# Altium integrated library FTDI.IntLib: 8 symbols
Pins are listed as number, name and electrical type; pins without a type are passive.

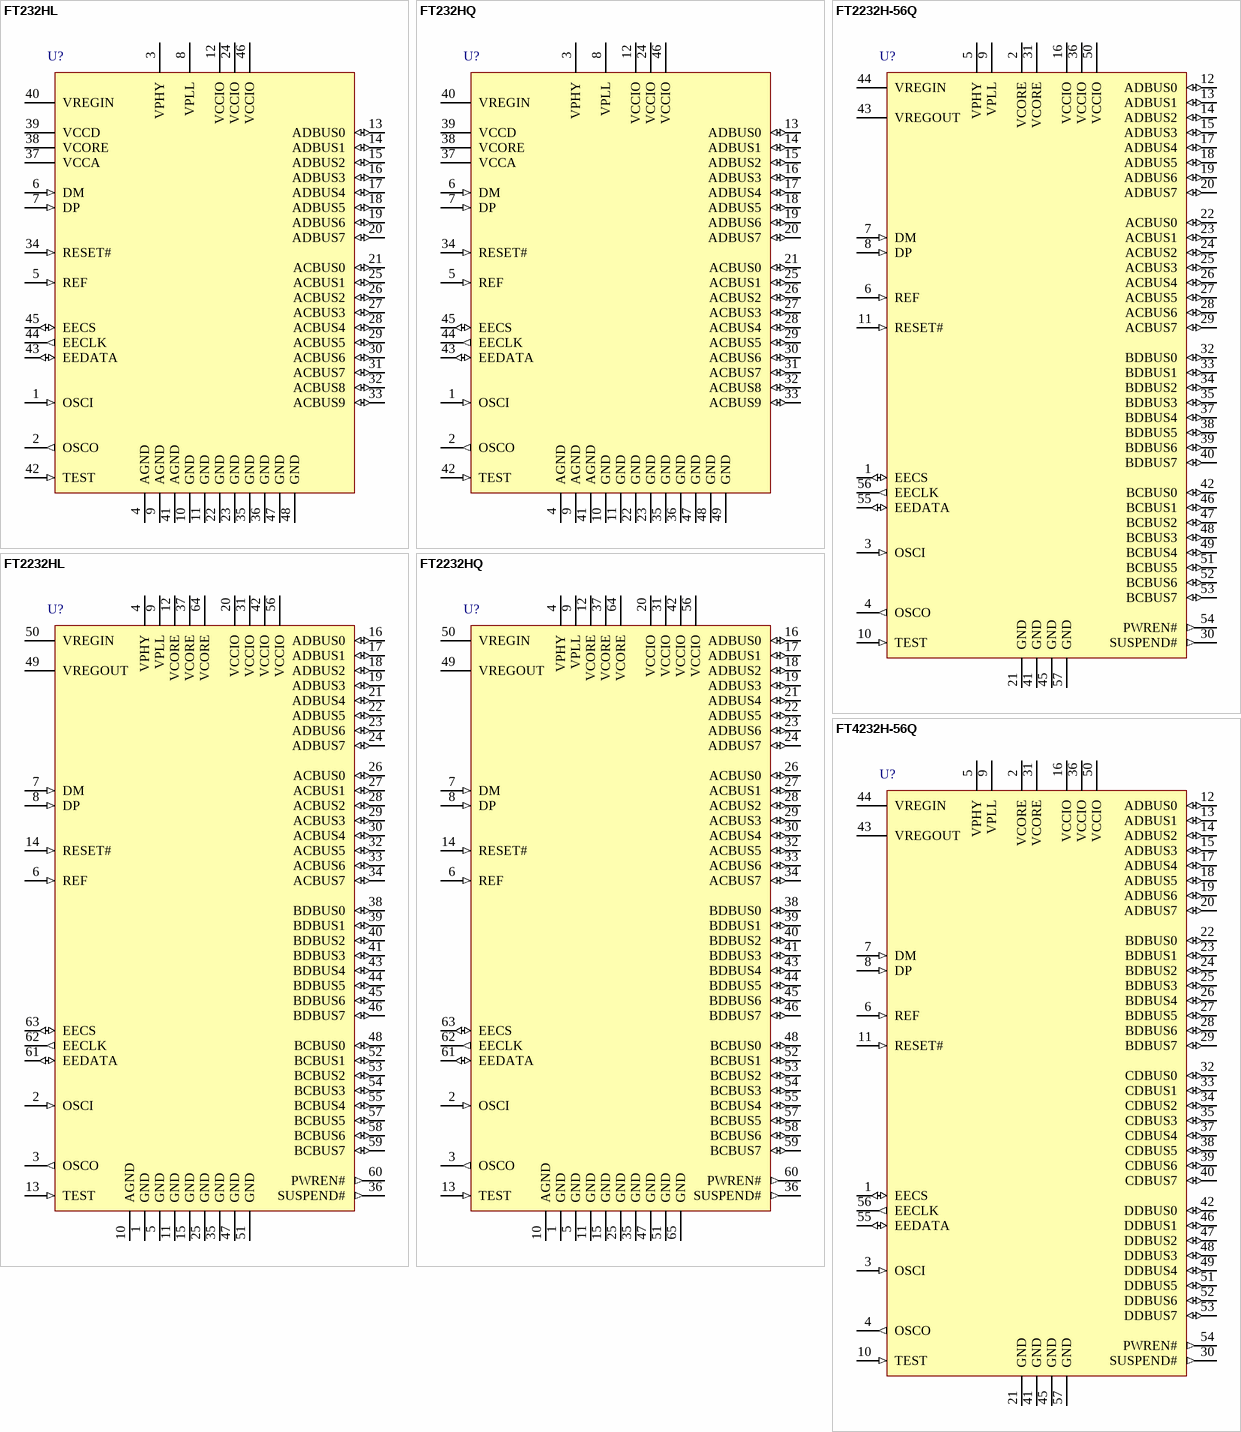
[diagram p0: symbols FT232HL to FT4232H-56Q]

## FT232HL
designator U?
Single Channel Hi-Speed USB to Multipurpose UART/FIFO IC, 48-pin LQFP, Tape and Reel; Manufacturer: FTDI; PartNumber: FT232HL; DatasheetVersion: ver 1.8, Dec-2012; PackageVersion: Dec-12; PackageReference: LQFP-48; PackageDescription: 48-Pin Thin Quad Flat Pack, 7 x 7 mm Body, 0.5 mm Pitch; ComponentLink1Description: Manufacturer URL; ComponentLink1URL: http://www.ftdichip.com/; ComponentLink2Description: Datasheet; ComponentLink2URL: http://www.ftdichip.com/Support/Documents/DataSheets/ICs/DS_FT232H.pdf
footprint LQFP48
pins: 1 OSCI (in), 2 OSCO (out), 3 VPHY (power), 4 AGND (power), 5 REF (in), 6 DM (in), 7 DP (in), 8 VPLL (power), 9 AGND (power), 10 GND (power), 11 GND (power), 12 VCCIO (power), 13 ADBUS0 (io), 14 ADBUS1 (io), 15 ADBUS2 (io), 16 ADBUS3 (io), 17 ADBUS4 (io), 18 ADBUS5 (io), 19 ADBUS6 (io), 20 ADBUS7 (io), 21 ACBUS0 (io), 22 GND (power), 23 GND (power), 24 VCCIO (power), 25 ACBUS1 (io), 26 ACBUS2 (io), 27 ACBUS3 (io), 28 ACBUS4 (io), 29 ACBUS5 (io), 30 ACBUS6 (io), 31 ACBUS7 (io), 32 ACBUS8 (io), 33 ACBUS9 (io), 34 RESET# (in), 35 GND (power), 36 GND (power), 37 VCCA (power), 38 VCORE (power), 39 VCCD (power), 40 VREGIN (power), 41 AGND (power), 42 TEST (in), 43 EEDATA (io), 44 EECLK (out), 45 EECS (io), 46 VCCIO (power), 47 GND (power), 48 GND (power)

## FT232HQ
designator U?
Single Channel Hi-Speed USB to Multipurpose UART/FIFO IC, 48-pin QFN, Tape and Reel; Manufacturer: FTDI; PartNumber: FT232HQ; DatasheetVersion: ver 1.8, Dec-2012; PackageVersion: Dec-12; PackageReference: QFN48; PackageDescription: 48-Pin Quad Flat No-Lead 0.5 mm Pitch, 6.2 x 6.2 mm Exposed Pad; ComponentLink1Description: Manufacturer URL; ComponentLink1URL: http://www.ftdichip.com/; ComponentLink2Description: Datasheet; ComponentLink2URL: http://www.ftdichip.com/Support/Documents/DataSheets/ICs/DS_FT232H.pdf
footprint QFN48
pins: 1 OSCI (in), 2 OSCO (out), 3 VPHY (power), 4 AGND (power), 5 REF (in), 6 DM (in), 7 DP (in), 8 VPLL (power), 9 AGND (power), 10 GND (power), 11 GND (power), 12 VCCIO (power), 13 ADBUS0 (io), 14 ADBUS1 (io), 15 ADBUS2 (io), 16 ADBUS3 (io), 17 ADBUS4 (io), 18 ADBUS5 (io), 19 ADBUS6 (io), 20 ADBUS7 (io), 21 ACBUS0 (io), 22 GND (power), 23 GND (power), 24 VCCIO (power), 25 ACBUS1 (io), 26 ACBUS2 (io), 27 ACBUS3 (io), 28 ACBUS4 (io), 29 ACBUS5 (io), 30 ACBUS6 (io), 31 ACBUS7 (io), 32 ACBUS8 (io), 33 ACBUS9 (io), 34 RESET# (in), 35 GND (power), 36 GND (power), 37 VCCA (power), 38 VCORE (power), 39 VCCD (power), 40 VREGIN (power), 41 AGND (power), 42 TEST (in), 43 EEDATA (io), 44 EECLK (out), 45 EECS (io), 46 VCCIO (power), 47 GND (power), 48 GND (power), 49 GND (power)

## FT2232H-56Q
designator U?
Dual High Speed USB To Multipurpose UART/FIFO IC, 56-pin QFN, Tape and Reel; Manufacturer: FTDI; PartNumber: FT2232H-56Q; DatasheetVersion: ver 2.21, Jun-2019; PackageVersion: Jun-12; PackageReference: VQFN-56; PackageDescription: 56-Pin Quad Flat No-Lead, 8 x 8 mm Body, 0.5 mm Pitch, 5.85 x 5.85 mm Exposed Pad; ComponentLink1Description: Manufacturer URL; ComponentLink1URL: http://www.ftdichip.com/; ComponentLink2Description: Datasheet; ComponentLink2URL: http://www.ftdichip.com/Support/Documents/DataSheets/ICs/DS_FT2232H.pdf
footprint VQFN56
pins: 1 EECS (io), 2 VCORE (power), 3 OSCI (in), 4 OSCO (out), 5 VPHY (power), 6 REF (in), 7 DM (in), 8 DP (in), 9 VPLL (power), 10 TEST (in), 11 RESET# (in), 12 ADBUS0 (io), 13 ADBUS1 (io), 14 ADBUS2 (io), 15 ADBUS3 (io), 16 VCCIO (power), 17 ADBUS4 (io), 18 ADBUS5 (io), 19 ADBUS6 (io), 20 ADBUS7 (io), 21 GND (power), 22 ACBUS0 (io), 23 ACBUS1 (io), 24 ACBUS2 (io), 25 ACBUS3 (io), 26 ACBUS4 (io), 27 ACBUS5 (io), 28 ACBUS6 (io), 29 ACBUS7 (io), 30 SUSPEND# (out), 31 VCORE (power), 32 BDBUS0 (io), 33 BDBUS1 (io), 34 BDBUS2 (io), 35 BDBUS3 (io), 36 VCCIO (power), 37 BDBUS4 (io), 38 BDBUS5 (io), 39 BDBUS6 (io), 40 BDBUS7 (io), 41 GND (power), 42 BCBUS0 (io), 43 VREGOUT (power), 44 VREGIN (power), 45 GND (power), 46 BCBUS1 (io), 47 BCBUS2 (io), 48 BCBUS3 (io), 49 BCBUS4 (io), 50 VCCIO (power), 51 BCBUS5 (io), 52 BCBUS6 (io), 53 BCBUS7 (io), 54 PWREN# (out), 55 EEDATA (io), 56 EECLK (out), 57 GND (power)

## FT2232HL
designator U?
Dual High Speed USB To Multipurpose UART/FIFO IC, 64-pin LQFP, Tape and Reel; Manufacturer: FTDI; PartNumber: FT2232HL; DatasheetVersion: ver 2.21, Jun-2012; PackageVersion: Jun-12; PackageReference: LQFP-64; PackageDescription: 64-Pin Thin Quad Flat Pack, 10 x 10 x 1.4 mm Body, 0.5 mm Pitch; ComponentLink1Description: Manufacturer URL; ComponentLink1URL: http://www.ftdichip.com/; ComponentLink2Description: Datasheet; ComponentLink2URL: http://www.ftdichip.com/Support/Documents/DataSheets/ICs/DS_FT2232H.pdf
footprint LQFP64
pins: 1 GND (power), 2 OSCI (in), 3 OSCO (out), 4 VPHY (power), 5 GND (power), 6 REF (in), 7 DM (in), 8 DP (in), 9 VPLL (power), 10 AGND (power), 11 GND (power), 12 VCORE (power), 13 TEST (in), 14 RESET# (in), 15 GND (power), 16 ADBUS0 (io), 17 ADBUS1 (io), 18 ADBUS2 (io), 19 ADBUS3 (io), 20 VCCIO (power), 21 ADBUS4 (io), 22 ADBUS5 (io), 23 ADBUS6 (io), 24 ADBUS7 (io), 25 GND (power), 26 ACBUS0 (io), 27 ACBUS1 (io), 28 ACBUS2 (io), 29 ACBUS3 (io), 30 ACBUS4 (io), 31 VCCIO (power), 32 ACBUS5 (io), 33 ACBUS6 (io), 34 ACBUS7 (io), 35 GND (power), 36 SUSPEND# (out), 37 VCORE (power), 38 BDBUS0 (io), 39 BDBUS1 (io), 40 BDBUS2 (io), 41 BDBUS3 (io), 42 VCCIO (power), 43 BDBUS4 (io), 44 BDBUS5 (io), 45 BDBUS6 (io), 46 BDBUS7 (io), 47 GND (power), 48 BCBUS0 (io), 49 VREGOUT (power), 50 VREGIN (power), 51 GND (power), 52 BCBUS1 (io), 53 BCBUS2 (io), 54 BCBUS3 (io), 55 BCBUS4 (io), 56 VCCIO (power), 57 BCBUS5 (io), 58 BCBUS6 (io), 59 BCBUS7 (io), 60 PWREN# (out), 61 EEDATA (io), 62 EECLK (out), 63 EECS (io), 64 VCORE (power)

## FT2232HQ
designator U?
Dual High Speed USB To Multipurpose UART/FIFO IC, 64-pin QFN, Tape and Reel; Manufacturer: FTDI; PartNumber: FT2232HQ; DatasheetVersion: ver 2.21, Jun-2012; PackageVersion: Jun-12; PackageReference: QFN64_2; PackageDescription: 64-Pin Quad Flat No-Lead, 9 x 9 mm Body, 0.5 mm Pitch, 4.35 x 4.35 mm Exposed Pad; ComponentLink1Description: Manufacturer URL; ComponentLink1URL: http://www.ftdichip.com/; ComponentLink2Description: Datasheet; ComponentLink2URL: http://www.ftdichip.com/Support/Documents/DataSheets/ICs/DS_FT2232H.pdf
footprint QFN64
pins: 1 GND (power), 2 OSCI (in), 3 OSCO (out), 4 VPHY (power), 5 GND (power), 6 REF (in), 7 DM (in), 8 DP (in), 9 VPLL (power), 10 AGND (power), 11 GND (power), 12 VCORE (power), 13 TEST (in), 14 RESET# (in), 15 GND (power), 16 ADBUS0 (io), 17 ADBUS1 (io), 18 ADBUS2 (io), 19 ADBUS3 (io), 20 VCCIO (power), 21 ADBUS4 (io), 22 ADBUS5 (io), 23 ADBUS6 (io), 24 ADBUS7 (io), 25 GND (power), 26 ACBUS0 (io), 27 ACBUS1 (io), 28 ACBUS2 (io), 29 ACBUS3 (io), 30 ACBUS4 (io), 31 VCCIO (power), 32 ACBUS5 (io), 33 ACBUS6 (io), 34 ACBUS7 (io), 35 GND (power), 36 SUSPEND# (out), 37 VCORE (power), 38 BDBUS0 (io), 39 BDBUS1 (io), 40 BDBUS2 (io), 41 BDBUS3 (io), 42 VCCIO (power), 43 BDBUS4 (io), 44 BDBUS5 (io), 45 BDBUS6 (io), 46 BDBUS7 (io), 47 GND (power), 48 BCBUS0 (io), 49 VREGOUT (power), 50 VREGIN (power), 51 GND (power), 52 BCBUS1 (io), 53 BCBUS2 (io), 54 BCBUS3 (io), 55 BCBUS4 (io), 56 VCCIO (power), 57 BCBUS5 (io), 58 BCBUS6 (io), 59 BCBUS7 (io), 60 PWREN# (out), 61 EEDATA (io), 62 EECLK (out), 63 EECS (io), 64 VCORE (power), 65 GND (power)

## FT4232H-56Q
designator U?
Quad High Speed USB To Multipurpose UART/MPSSE IC, 56-pin QFN, Tape and Reel; Manufacturer: FTDI; PartNumber: FT4232H-56Q; DatasheetVersion: ver 2.2, Jan-2019; PackageVersion: Jan-12; PackageReference: VQFN-56; PackageDescription: 56-Pin Quad Flat No-Lead, 8 x 8 mm Body, 0.5 mm Pitch, 5.85 x 5.85 mm Exposed Pad; ComponentLink1Description: Manufacturer URL; ComponentLink1URL: http://www.ftdichip.com/; ComponentLink2Description: Datasheet; ComponentLink2URL: http://www.ftdichip.com/Support/Documents/DataSheets/ICs/DS_FT4232H.pdf
footprint VQFN56
pins: 1 EECS (io), 2 VCORE (power), 3 OSCI (in), 4 OSCO (out), 5 VPHY (power), 6 REF (in), 7 DM (in), 8 DP (in), 9 VPLL (power), 10 TEST (in), 11 RESET# (in), 12 ADBUS0 (io), 13 ADBUS1 (io), 14 ADBUS2 (io), 15 ADBUS3 (io), 16 VCCIO (power), 17 ADBUS4 (io), 18 ADBUS5 (io), 19 ADBUS6 (io), 20 ADBUS7 (io), 21 GND (power), 22 BDBUS0 (io), 23 BDBUS1 (io), 24 BDBUS2 (io), 25 BDBUS3 (io), 26 BDBUS4 (io), 27 BDBUS5 (io), 28 BDBUS6 (io), 29 BDBUS7 (io), 30 SUSPEND# (out), 31 VCORE (power), 32 CDBUS0 (io), 33 CDBUS1 (io), 34 CDBUS2 (io), 35 CDBUS3 (io), 36 VCCIO (power), 37 CDBUS4 (io), 38 CDBUS5 (io), 39 CDBUS6 (io), 40 CDBUS7 (io), 41 GND (power), 42 DDBUS0 (io), 43 VREGOUT (power), 44 VREGIN (power), 45 GND (power), 46 DDBUS1 (io), 47 DDBUS2 (io), 48 DDBUS3 (io), 49 DDBUS4 (io), 50 VCCIO (power), 51 DDBUS5 (io), 52 DDBUS6 (io), 53 DDBUS7 (io), 54 PWREN# (out), 55 EEDATA (io), 56 EECLK (out), 57 GND (power)

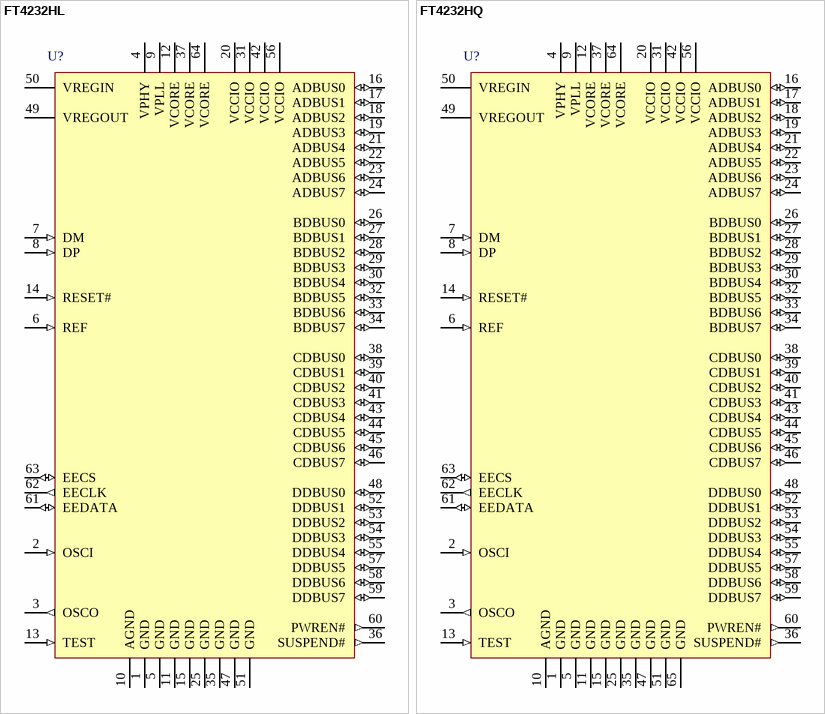
[diagram p1: symbols FT4232HL to FT4232HQ]

## FT4232HL
designator U?
Quad High Speed USB To Multipurpose UART/MPSSE IC, 64-pin LQFP, Tape and Reel; Manufacturer: FTDI; PartNumber: FT4232HL; DatasheetVersion: ver 2.2, Jan-2012; PackageVersion: Jan-12; PackageReference: LQFP-64; PackageDescription: 64-Pin Thin Quad Flat Pack, 10 x 10 x 1.4 mm Body, 0.5 mm Pitch; ComponentLink1Description: Manufacturer URL; ComponentLink1URL: http://www.ftdichip.com/; ComponentLink2Description: Datasheet; ComponentLink2URL: http://www.ftdichip.com/Support/Documents/DataSheets/ICs/DS_FT4232H.pdf
footprint LQFP64
pins: 1 GND (power), 2 OSCI (in), 3 OSCO (out), 4 VPHY (power), 5 GND (power), 6 REF (in), 7 DM (in), 8 DP (in), 9 VPLL (power), 10 AGND (power), 11 GND (power), 12 VCORE (power), 13 TEST (in), 14 RESET# (in), 15 GND (power), 16 ADBUS0 (io), 17 ADBUS1 (io), 18 ADBUS2 (io), 19 ADBUS3 (io), 20 VCCIO (power), 21 ADBUS4 (io), 22 ADBUS5 (io), 23 ADBUS6 (io), 24 ADBUS7 (io), 25 GND (power), 26 BDBUS0 (io), 27 BDBUS1 (io), 28 BDBUS2 (io), 29 BDBUS3 (io), 30 BDBUS4 (io), 31 VCCIO (power), 32 BDBUS5 (io), 33 BDBUS6 (io), 34 BDBUS7 (io), 35 GND (power), 36 SUSPEND# (out), 37 VCORE (power), 38 CDBUS0 (io), 39 CDBUS1 (io), 40 CDBUS2 (io), 41 CDBUS3 (io), 42 VCCIO (power), 43 CDBUS4 (io), 44 CDBUS5 (io), 45 CDBUS6 (io), 46 CDBUS7 (io), 47 GND (power), 48 DDBUS0 (io), 49 VREGOUT (power), 50 VREGIN (power), 51 GND (power), 52 DDBUS1 (io), 53 DDBUS2 (io), 54 DDBUS3 (io), 55 DDBUS4 (io), 56 VCCIO (power), 57 DDBUS5 (io), 58 DDBUS6 (io), 59 DDBUS7 (io), 60 PWREN# (out), 61 EEDATA (io), 62 EECLK (out), 63 EECS (io), 64 VCORE (power)

## FT4232HQ
designator U?
Quad High Speed USB To Multipurpose UART/MPSSE IC, 64-pin QFN, Tape and Reel; Manufacturer: FTDI; PartNumber: FT4232HQ; DatasheetVersion: ver 2.2, Jan-2012; PackageVersion: Jan-12; PackageReference: QFN64_2; PackageDescription: 64-Pin Quad Flat No-Lead, 9 x 9 mm Body, 0.5 mm Pitch, 4.35 x 4.35 mm Exposed Pad; ComponentLink1Description: Manufacturer URL; ComponentLink1URL: http://www.ftdichip.com/; ComponentLink2Description: Datasheet; ComponentLink2URL: http://www.ftdichip.com/Support/Documents/DataSheets/ICs/DS_FT4232H.pdf
footprint QFN64
pins: 1 GND (power), 2 OSCI (in), 3 OSCO (out), 4 VPHY (power), 5 GND (power), 6 REF (in), 7 DM (in), 8 DP (in), 9 VPLL (power), 10 AGND (power), 11 GND (power), 12 VCORE (power), 13 TEST (in), 14 RESET# (in), 15 GND (power), 16 ADBUS0 (io), 17 ADBUS1 (io), 18 ADBUS2 (io), 19 ADBUS3 (io), 20 VCCIO (power), 21 ADBUS4 (io), 22 ADBUS5 (io), 23 ADBUS6 (io), 24 ADBUS7 (io), 25 GND (power), 26 BDBUS0 (io), 27 BDBUS1 (io), 28 BDBUS2 (io), 29 BDBUS3 (io), 30 BDBUS4 (io), 31 VCCIO (power), 32 BDBUS5 (io), 33 BDBUS6 (io), 34 BDBUS7 (io), 35 GND (power), 36 SUSPEND# (out), 37 VCORE (power), 38 CDBUS0 (io), 39 CDBUS1 (io), 40 CDBUS2 (io), 41 CDBUS3 (io), 42 VCCIO (power), 43 CDBUS4 (io), 44 CDBUS5 (io), 45 CDBUS6 (io), 46 CDBUS7 (io), 47 GND (power), 48 DDBUS0 (io), 49 VREGOUT (power), 50 VREGIN (power), 51 GND (power), 52 DDBUS1 (io), 53 DDBUS2 (io), 54 DDBUS3 (io), 55 DDBUS4 (io), 56 VCCIO (power), 57 DDBUS5 (io), 58 DDBUS6 (io), 59 DDBUS7 (io), 60 PWREN# (out), 61 EEDATA (io), 62 EECLK (out), 63 EECS (io), 64 VCORE (power), 65 GND (power)